# Altium schematic symbol library MB0017A.01.A.1.SchLib: 1 symbol
Pins are listed as number, name and electrical type; pins without a type are passive.

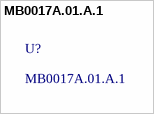
[diagram p0: symbol MB0017A.01.A.1]

## MB0017A.01.A.1
designator U?
1 alternate drawing of the same symbol